# Altium schematic symbol library BUTTON_SWITCHES.SchLib: 4 symbols
Pins are listed as number, name and electrical type; pins without a type are passive.

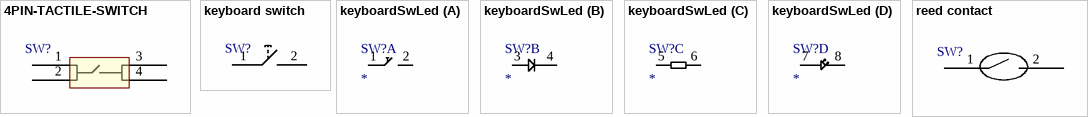
[diagram p0: symbols 4PIN-TACTILE-SWITCH to reed contact]

## 4PIN-TACTILE-SWITCH
designator SW?  (value not drawn)
footprint 4pin-tactile-switch
pins: 1, 2, 3, 4

## keyboard switch
designator SW?  (value not drawn)
footprint KEYBOARD_SW_STAB (keyboard switch met 2U stabilizer)
footprint KEYBOARD_SW
pins: 1, 2

## keyboardSwLed
designator SW?
footprint keyboardSwLed
footprint INTEGRATED_KEYBOARD_SW_STAB
footprint INTEGRATED_KEYBOARD_SW
part A pins: 1, 2
part B pins: 3, 4
part C pins: 5, 6
part D pins: 7, 8

## reed contact
designator SW?  (value not drawn)
footprint reed contact
pins: 1, 2